# Altium schematic symbol library CPU_STM.SchLib: 336 symbols (part 4 of 6)
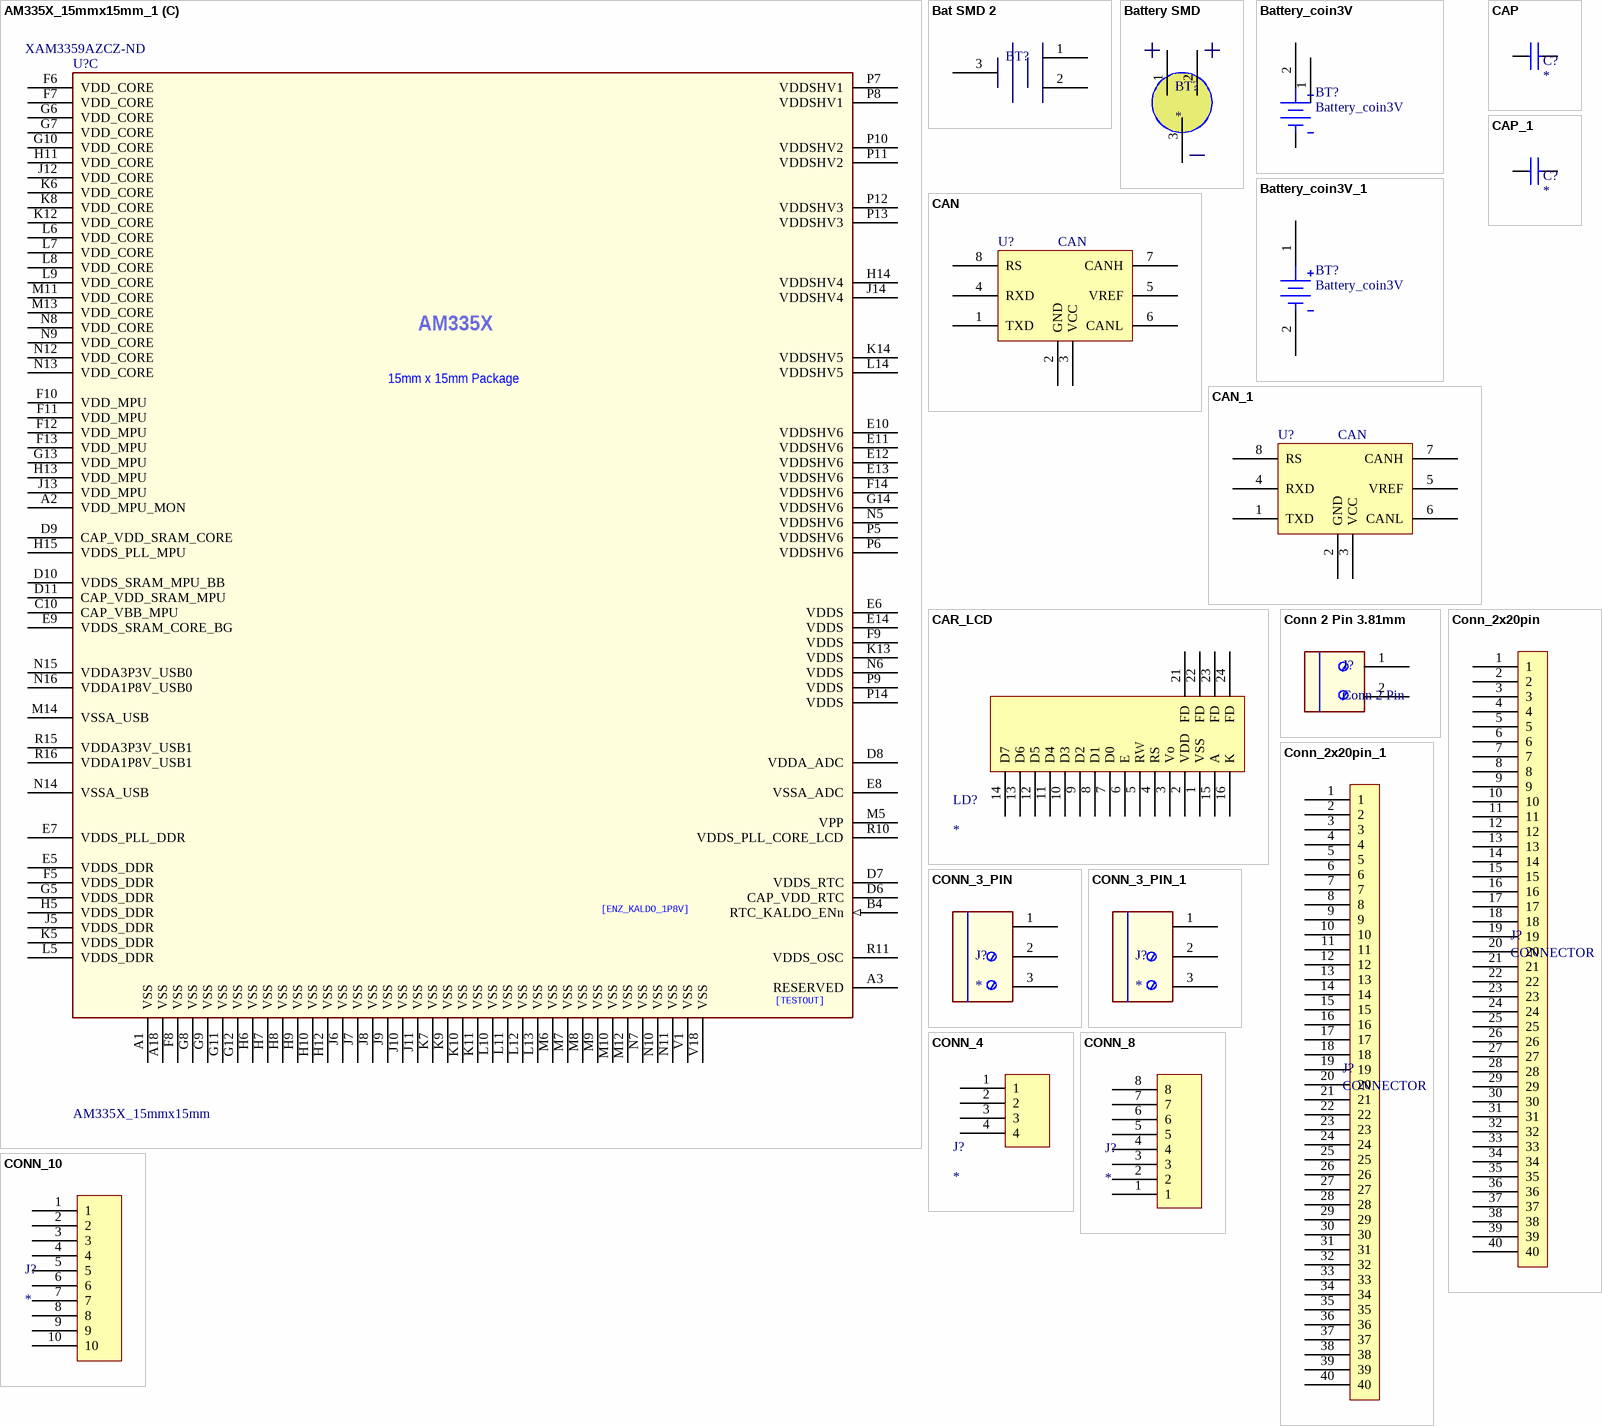
[diagram p22: symbols AM335X_15mmx15mm_1 to CONN_10]

## CAN
designator U?
TEXAS INSTRUMENTS - SN65HVD230DR - IC, CAN TXRX, 1MBPS, 1/1, 3.3V, 8-SOIC; No. of TX Buffers: 1; Supply Voltage Min: 3; Supply Voltage Max: 3.3; Interface Case Style: SOIC; No. of Pins: 8; Supplier 1: Farnell; Manufacturer: TEXAS INSTRUMENTS; Manufacturer Part Number: SN65HVD230DR; RoHS: YES; Stock 1: 634; Pricing 1: 1=1,97, 10=1,77, 25=1,53, 50=1,44, 100=1,42, 250=1,26 (EUR); IC Interface Type: CAN; No. of RX Buffers: 1; Operating Temperature Min: -40; ComponentLink1URL: http://www.farnell.com/datasheets/1695240.pdf; ComponentLink1Description: http://www.farnell.com/datasheets/1695240.pdf; ComponentLink2URL: http://www.farnell.com/cad/1611181.zip; ComponentLink2Description: http://www.farnell.com/cad/1611181.zip; Supplier Part Number 1: 2395479
footprint SOIC-8
pins: 1 TXD, 2 GND, 3 VCC, 4 RXD, 5 VREF, 6 CANL, 7 CANH, 8 RS

## CAN_1
designator U?, comment CAN
TEXAS INSTRUMENTS - SN65HVD230DR - IC, CAN TXRX, 1MBPS, 1/1, 3.3V, 8-SOIC; No. of TX Buffers: 1; Supply Voltage Min: 3; Supply Voltage Max: 3.3; Interface Case Style: SOIC; No. of Pins: 8; Supplier 1: Farnell; Manufacturer: TEXAS INSTRUMENTS; Manufacturer Part Number: SN65HVD230DR; RoHS: YES; Stock 1: 634; Pricing 1: 1=1,97, 10=1,77, 25=1,53, 50=1,44, 100=1,42, 250=1,26 (EUR); IC Interface Type: CAN; No. of RX Buffers: 1; Operating Temperature Min: -40; ComponentLink1URL: http://www.farnell.com/datasheets/1695240.pdf; ComponentLink1Description: http://www.farnell.com/datasheets/1695240.pdf; ComponentLink2URL: http://www.farnell.com/cad/1611181.zip; ComponentLink2Description: http://www.farnell.com/cad/1611181.zip; Supplier Part Number 1: 2395479
footprint SOIC-8
pins: 1 TXD, 2 GND, 3 VCC, 4 RXD, 5 VREF, 6 CANL, 7 CANH, 8 RS

## CAP
designator C?
DEVICE: CAP1608; CLASS: DISCRETE; DIS-V: RS; REF DIS-V: 220-7922; MAN: MURATA; PKG: 0603; PUR: SUB; TOL: 10%; DES: Capacitor X7R,GRM39 serial; PN: GRM39-100nF 16V; RAT: 16V
footprint SM-CAP-0402
pins: 1, 2

## CAP_1
designator C?
DEVICE: CAP1608; CLASS: DISCRETE; DIS-V: RS; REF DIS-V: 220-7922; MAN: MURATA; PKG: 0603; PUR: SUB; TOL: 10%; DES: Capacitor X7R,GRM39 serial; PN: GRM39-100nF 16V; RAT: 16V
footprint SM-CAP-0402
pins: 1, 2

## CAR_LCD
designator LD?
RC1602E Character 16x2 dots
footprint LCD_CAR
footprint mini_lcd
pins: 1 VSS, 2 VDD, 3 Vo, 4 RS, 5 RW, 6 E, 7 D0, 8 D1, 9 D2, 10 D3, 11 D4, 12 D5, 13 D6, 14 D7, 15 A, 16 K, 21 FD, 22 FD, 23 FD, 24 FD

## Conn 2 Pin 3.81mm
designator J?, comment Conn 2 Pin
TERM BLOCK HDR 2POS R/A 3.81MM; Manufacturer: Phoenix Contact; Manufacturer Part Number: 1803277; Number of Positions: 2; Number of Levels: 1; Pitch: 0.150" (3.81mm); Header Orientation: 90°, Right Angle; Current - IEC: 8A; Voltage - IEC: 250V; Voltage - UL: 300V; Supplier 1: Digi-Key; RoHS: RoHS Compliant; Category: Connectors, Interconnects; Stock 1: 4266; Pricing 1: 1=0.75, 10=0.716, 50=0.6844, 100=0.6658, 250=0.6222, 500=0.57242, 1000=0.5185, 2500=0.4941, 5000=0.4636 (USD); Packaging: Bulk; Type: Header, Male Pins, Shrouded (4 Side); Positions Per Level: 2; Plug Wire Entry: -; Termination Style: Solder; Mounting Type: Through Hole; Current - UL: 8A; Wire Gauge or Range - AWG: -; Wire Gauge or Range - mm²: -; Color: Green; Operating Temperature: -; Contact Mating Finish: Tin; Features: -; ComponentLink1URL: http://media.digikey.com/pdf/Data%20Sheets/Phoenix%20Contact%20PDFs/1803277.pdf; ComponentLink1Description: http://media.digikey.com/pdf/Data%20Sheets/Phoenix%20Contact%20PDFs/1803277.pdf; Supplier Part Number 1: 277-1206-ND
footprint Connector 2 Ways Pitch 3,81
pins: 1, 2

## Conn_2x20pin
designator J?, comment CONNECTOR
footprint CONN_2X20 2mm
pins: 1, 2, 3, 4, 5, 6, 7, 8, 9, 10, 11, 12, 13, 14, 15, 16, 17, 18, 19, 20, 21, 22, 23, 24, 25, 26, 27, 28, 29, 30, 31, 32, 33, 34, 35, 36, 37, 38, 39, 40

## Conn_2x20pin_1
designator J?, comment CONNECTOR
footprint CONN_2X20 2mm
pins: 1, 2, 3, 4, 5, 6, 7, 8, 9, 10, 11, 12, 13, 14, 15, 16, 17, 18, 19, 20, 21, 22, 23, 24, 25, 26, 27, 28, 29, 30, 31, 32, 33, 34, 35, 36, 37, 38, 39, 40

## CONN_3_PIN
designator J?
footprint CON_3
pins: 1, 2, 3

## CONN_3_PIN_1
designator J?
footprint CON_3
pins: 1, 2, 3

## CONN_4
designator J?
footprint CONECTOR_PCB_4_180
pins: 1, 2, 3, 4

## CONN_8
designator J?
footprint CONECTOR_PCB_10
pins: 1, 2, 3, 4, 5, 6, 7, 8

## CONN_10
designator J?
footprint Connector_10_pin
pins: 1, 2, 3, 4, 5, 6, 7, 8, 9, 10

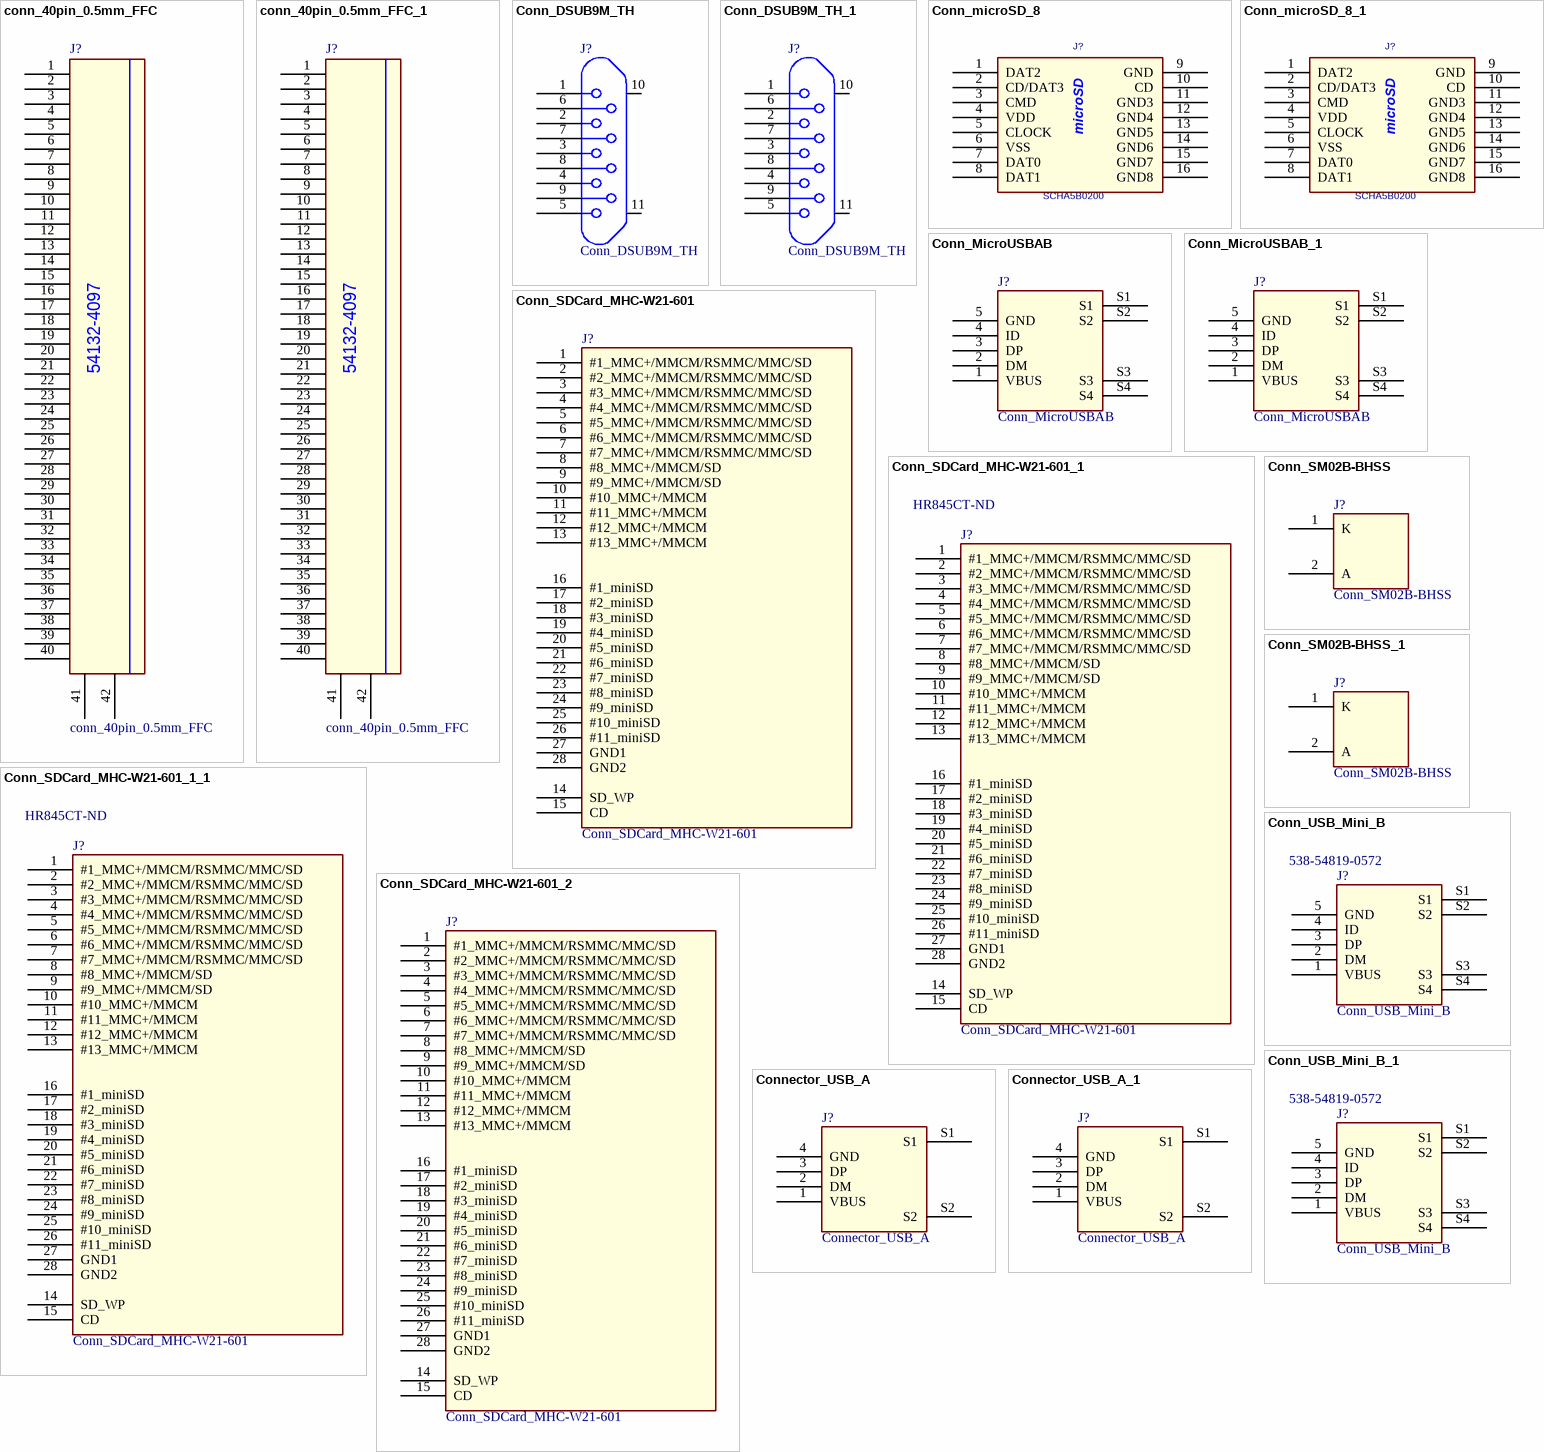
[diagram p10: symbols conn_40pin_0.5mm_FFC to Connector_USB_A_1]

## conn_40pin_0.5mm_FFC
designator J?
PartName: Conn_FFC_0.5mm_40pos; Mfr: Molex; MfrNum: 54132-4097; TIIntPartnumber: 2C0101; Cost100: 1.21; Cost10K: 0.31; DescriptiveText: Connector 0.5mm pitch, 40 Pin, 0.5A/50V, FFC; Vendor: Molex; Supplier 1: Farnell; Supplier Part Number 1: 1757130
footprint CNFPC1X40-0P5MM
pins: 1, 2, 3, 4, 5, 6, 7, 8, 9, 10, 11, 12, 13, 14, 15, 16, 17, 18, 19, 20, 21, 22, 23, 24, 25, 26, 27, 28, 29, 30, 31, 32, 33, 34, 35, 36, 37, 38, 39, 40, 41, 42

## conn_40pin_0.5mm_FFC_1
designator J?, comment conn_40pin_0.5mm_FFC
PartName: Conn_FFC_0.5mm_40pos; Mfr: Molex; MfrNum: 54132-4097; TIIntPartnumber: 2C0101; Cost100: 1.21; Cost10K: 0.31; DescriptiveText: Connector 0.5mm pitch, 40 Pin, 0.5A/50V, FFC; Vendor: Molex; Supplier 1: Farnell; Supplier Part Number 1: 1757130
footprint CNFPC1X40-0P5MM
pins: 1, 2, 3, 4, 5, 6, 7, 8, 9, 10, 11, 12, 13, 14, 15, 16, 17, 18, 19, 20, 21, 22, 23, 24, 25, 26, 27, 28, 29, 30, 31, 32, 33, 34, 35, 36, 37, 38, 39, 40, 41, 42

## Conn_DSUB9M_TH
designator J?
TIIntPartnumber: 2C0098; MfrNum: 182-009-113R531; Mfr: Norcomp; PartName: Conn_DSub9MTH; Cost10K: 0.82; Cost100: 1.20; Vendor: Digikey; DescriptiveText: Connector DB9 Male RA Throughhole; Supplier 1: Digi-Key; Supplier Part Number 1: 182-09ME-ND
footprint norcomp_db9m_th
pins: 1, 2, 3, 4, 5, 6, 7, 8, 9, 10, 11

## Conn_DSUB9M_TH_1
designator J?, comment Conn_DSUB9M_TH
TIIntPartnumber: 2C0098; MfrNum: 182-009-113R531; Mfr: Norcomp; PartName: Conn_DSub9MTH; Cost10K: 0.82; Cost100: 1.20; Vendor: Digikey; DescriptiveText: Connector DB9 Male RA Throughhole; Supplier 1: Digi-Key; Supplier Part Number 1: 182-09ME-ND
footprint norcomp_db9m_th
pins: 1, 2, 3, 4, 5, 6, 7, 8, 9, 10, 11

## Conn_microSD_8
designator J?, comment SCHA5B0200
TIIntPartnumber: 2C0102; Mfr: ALPS; PartName: Conn_microSD_SCHA5B0200; DescriptiveText: Connector compact low-profile Push Type Micro SD; Cost10K: x.00; Vendor: Mouser; Cost100: x.00; MfrNum: SCHA5B0200; Supplier 1: Mouser; Supplier Part Number 1: 688-SCHA5B0200
footprint SD-MICRO-SCHA5B0300
pins: 1 DAT2, 2 CD/DAT3, 3 CMD, 4 VDD (power), 5 CLOCK, 6 VSS (power), 7 DAT0, 8 DAT1, 9 GND (power), 10 CD, 11 GND3 (power), 12 GND4 (power), 13 GND5 (power), 14 GND6 (power), 15 GND7 (power), 16 GND8 (power)
text: microSD

## Conn_microSD_8_1
designator J?, comment SCHA5B0200
TIIntPartnumber: 2C0102; Mfr: ALPS; PartName: Conn_microSD_SCHA5B0200; DescriptiveText: Connector compact low-profile Push Type Micro SD; Cost10K: x.00; Vendor: Mouser; Cost100: x.00; MfrNum: SCHA5B0200; Supplier 1: Mouser; Supplier Part Number 1: 688-SCHA5B0200
footprint SD-MICRO-SCHA5B0300
pins: 1 DAT2, 2 CD/DAT3, 3 CMD, 4 VDD (power), 5 CLOCK, 6 VSS (power), 7 DAT0, 8 DAT1, 9 GND (power), 10 CD, 11 GND3 (power), 12 GND4 (power), 13 GND5 (power), 14 GND6 (power), 15 GND7 (power), 16 GND8 (power)
text: microSD

## Conn_MicroUSBAB
designator J?
Connector Micro USB AB RA; TIIntPartnumber: 2C0088; MfrNum: ZX62-AB-5PA(11); Mfr: Hirose; Cost10K: 0.26; Cost100: 0.67; Vendor: Digikey; DescriptiveText: Connector Micro USB AB RA; PartName: ConnectorMicroUSBAB; Descriptive_Text: Connector Micro USB AB RA; Supplier 1: Digi-Key; Supplier Part Number 1: H11635CT-ND
footprint ZX62-AB-5PA
pins: 1 VBUS, 2 DM, 3 DP, 4 ID, 5 GND, S1 (power), S2 (power), S3 (power), S4 (power)

## Conn_MicroUSBAB_1
designator J?, comment Conn_MicroUSBAB
Connector Micro USB AB RA; TIIntPartnumber: 2C0088; MfrNum: ZX62-AB-5PA(11); Mfr: Hirose; Cost10K: 0.26; Cost100: 0.67; Vendor: Digikey; DescriptiveText: Connector Micro USB AB RA; PartName: ConnectorMicroUSBAB; Descriptive_Text: Connector Micro USB AB RA; Supplier 1: Digi-Key; Supplier Part Number 1: H11635CT-ND
footprint ZX62-AB-5PA
pins: 1 VBUS, 2 DM, 3 DP, 4 ID, 5 GND, S1 (power), S2 (power), S3 (power), S4 (power)

## Conn_SDCard_MHC-W21-601
designator J?
Connector SD/MMC; PartName: ConnectorSDMMC; Mfr: Morethanall; MfrNum: MHC-W21-601-LF; TIIntPartnumber: 2C0089; Cost100: 0.95; Cost10K: 0.29; DescriptiveText: Connector SD/MMC; Vendor: Morethanall; Descriptive_Text: Connector SD/MMC
footprint MHC-W21-601-LF
pins: 1 #1_MMC+/MMCM/RSMMC/MMC/SD, 2 #2_MMC+/MMCM/RSMMC/MMC/SD, 3 #3_MMC+/MMCM/RSMMC/MMC/SD, 4 #4_MMC+/MMCM/RSMMC/MMC/SD, 5 #5_MMC+/MMCM/RSMMC/MMC/SD, 6 #6_MMC+/MMCM/RSMMC/MMC/SD, 7 #7_MMC+/MMCM/RSMMC/MMC/SD, 8 #8_MMC+/MMCM/SD, 9 #9_MMC+/MMCM/SD, 10 #10_MMC+/MMCM, 11 #11_MMC+/MMCM, 12 #12_MMC+/MMCM, 13 #13_MMC+/MMCM, 14 SD_WP, 15 CD, 16 #1_miniSD, 17 #2_miniSD, 18 #3_miniSD, 19 #4_miniSD, 20 #5_miniSD, 21 #6_miniSD, 22 #7_miniSD, 23 #8_miniSD, 24 #9_miniSD, 25 #10_miniSD, 26 #11_miniSD, 27 GND1, 28 GND2

## Conn_SDCard_MHC-W21-601_1
designator J?, comment Conn_SDCard_MHC-W21-601  Supplier Part Number 1: HR845CT-ND
Connector SD/MMC; PartName: ConnectorSDMMC; Mfr: Morethanall; MfrNum: MHC-W21-601-LF; TIIntPartnumber: 2C0089; Cost100: 0.95; Cost10K: 0.29; DescriptiveText: Connector SD/MMC; Vendor: Morethanall; Descriptive_Text: Connector SD/MMC; Supplier 1: Digi-Key
footprint MHC-W21-601-LF
pins: 1 #1_MMC+/MMCM/RSMMC/MMC/SD, 2 #2_MMC+/MMCM/RSMMC/MMC/SD, 3 #3_MMC+/MMCM/RSMMC/MMC/SD, 4 #4_MMC+/MMCM/RSMMC/MMC/SD, 5 #5_MMC+/MMCM/RSMMC/MMC/SD, 6 #6_MMC+/MMCM/RSMMC/MMC/SD, 7 #7_MMC+/MMCM/RSMMC/MMC/SD, 8 #8_MMC+/MMCM/SD, 9 #9_MMC+/MMCM/SD, 10 #10_MMC+/MMCM, 11 #11_MMC+/MMCM, 12 #12_MMC+/MMCM, 13 #13_MMC+/MMCM, 14 SD_WP, 15 CD, 16 #1_miniSD, 17 #2_miniSD, 18 #3_miniSD, 19 #4_miniSD, 20 #5_miniSD, 21 #6_miniSD, 22 #7_miniSD, 23 #8_miniSD, 24 #9_miniSD, 25 #10_miniSD, 26 #11_miniSD, 27 GND1, 28 GND2

## Conn_SDCard_MHC-W21-601_1_1
designator J?, comment Conn_SDCard_MHC-W21-601  Supplier Part Number 1: HR845CT-ND
Connector SD/MMC; PartName: ConnectorSDMMC; Mfr: Morethanall; MfrNum: MHC-W21-601-LF; TIIntPartnumber: 2C0089; Cost100: 0.95; Cost10K: 0.29; DescriptiveText: Connector SD/MMC; Vendor: Morethanall; Descriptive_Text: Connector SD/MMC; Supplier 1: Digi-Key
footprint MHC-W21-601-LF
pins: 1 #1_MMC+/MMCM/RSMMC/MMC/SD, 2 #2_MMC+/MMCM/RSMMC/MMC/SD, 3 #3_MMC+/MMCM/RSMMC/MMC/SD, 4 #4_MMC+/MMCM/RSMMC/MMC/SD, 5 #5_MMC+/MMCM/RSMMC/MMC/SD, 6 #6_MMC+/MMCM/RSMMC/MMC/SD, 7 #7_MMC+/MMCM/RSMMC/MMC/SD, 8 #8_MMC+/MMCM/SD, 9 #9_MMC+/MMCM/SD, 10 #10_MMC+/MMCM, 11 #11_MMC+/MMCM, 12 #12_MMC+/MMCM, 13 #13_MMC+/MMCM, 14 SD_WP, 15 CD, 16 #1_miniSD, 17 #2_miniSD, 18 #3_miniSD, 19 #4_miniSD, 20 #5_miniSD, 21 #6_miniSD, 22 #7_miniSD, 23 #8_miniSD, 24 #9_miniSD, 25 #10_miniSD, 26 #11_miniSD, 27 GND1, 28 GND2

## Conn_SDCard_MHC-W21-601_2
designator J?, comment Conn_SDCard_MHC-W21-601
Connector SD/MMC; PartName: ConnectorSDMMC; Mfr: Morethanall; MfrNum: MHC-W21-601-LF; TIIntPartnumber: 2C0089; Cost100: 0.95; Cost10K: 0.29; DescriptiveText: Connector SD/MMC; Vendor: Morethanall; Descriptive_Text: Connector SD/MMC
footprint MHC-W21-601-LF
pins: 1 #1_MMC+/MMCM/RSMMC/MMC/SD, 2 #2_MMC+/MMCM/RSMMC/MMC/SD, 3 #3_MMC+/MMCM/RSMMC/MMC/SD, 4 #4_MMC+/MMCM/RSMMC/MMC/SD, 5 #5_MMC+/MMCM/RSMMC/MMC/SD, 6 #6_MMC+/MMCM/RSMMC/MMC/SD, 7 #7_MMC+/MMCM/RSMMC/MMC/SD, 8 #8_MMC+/MMCM/SD, 9 #9_MMC+/MMCM/SD, 10 #10_MMC+/MMCM, 11 #11_MMC+/MMCM, 12 #12_MMC+/MMCM, 13 #13_MMC+/MMCM, 14 SD_WP, 15 CD, 16 #1_miniSD, 17 #2_miniSD, 18 #3_miniSD, 19 #4_miniSD, 20 #5_miniSD, 21 #6_miniSD, 22 #7_miniSD, 23 #8_miniSD, 24 #9_miniSD, 25 #10_miniSD, 26 #11_miniSD, 27 GND1, 28 GND2

## Conn_SM02B-BHSS
designator J?
Connector BHS Series 2pin PCB; TIIntPartnumber: 2C0093; MfrNum: SM02B-BHSS-1-TB; Mfr: JST; Cost10K: 0.82; Cost100: 1.74; Vendor: Digikey; Descriptive_Text: Connector BHS Series 2pin PCB; PartName: Conn_SM02B-BHSS; DescriptiveText: Connector BHS Series 2pin PCB; Supplier 1: Digi-Key; Supplier Part Number 1: 455-2876-6-ND
footprint sm_con_sm02b_bhss-1
pins: 1 K, 2 A

## Conn_SM02B-BHSS_1
designator J?, comment Conn_SM02B-BHSS
Connector BHS Series 2pin PCB; TIIntPartnumber: 2C0093; MfrNum: SM02B-BHSS-1-TB; Mfr: JST; Cost10K: 0.82; Cost100: 1.74; Vendor: Digikey; Descriptive_Text: Connector BHS Series 2pin PCB; PartName: Conn_SM02B-BHSS; DescriptiveText: Connector BHS Series 2pin PCB; Supplier 1: Digi-Key; Supplier Part Number 1: 455-2876-6-ND
footprint sm_con_sm02b_bhss-1
pins: 1 K, 2 A

## Conn_USB_Mini_B
designator J?  Supplier Part Number 1: 538-54819-0572
TIIntPartnumber: 2C0088; MfrNum: ZX62-AB-5PA(11); Mfr: Hirose; PartName: ConnectorMicroUSBAB; Manufacturer: Molex; Manufacturer Part Number: 54819-0572; DescriptiveText: Connector Micro USB AB RA; Cost10K: 0.26; Cost100: 0.67; Vendor: Digikey; Connector Type: Mini USB Type B Receptacle; Current Rating: 1 A; Gender: Female; Mounting Angle: Right; Number of Contacts: 5; Voltage Rating: 30 V; Insulator Colour: Black; Number of Ports: 1; Insulation Resistance: 100 MOhms; Descriptive_Text: Connector Micro USB AB RA; Supplier 1: Mouser; RoHS: RoHS Compliant; Category: USB Connectors; Stock 1: 15341; Pricing 1: 1=1.46, 10=1.35, 25=1.24, 50=1.19, 100=1.11, 250=0.999, 500=0.847, 800=0.723, 1600=0.704 (USD); Color: Black; Contact Plating: Gold; Features: Metal shielding for ESD protection; Operating Temperature Range: 0 C to + 50 C; Packaging: Reel; Product: Mini USB Type B Connectors; Series: 54819; Termination Style: Solder Tab; Brand: Molex; Contact Material: Copper Alloy; Flammability Rating: UL 94 V-0; Product Category: USB Connectors; Standard: USB; Standard Pack Qty: 800; RoHS - Mouser: Y; Minimum Order Quantity: 1; Reeling: True; ComponentLink1URL: http://www.mouser.com/ds/2/276/0548190572_IO_CONNECTORS-228789.pdf; ComponentLink1Description: http://www.mouser.com/ds/2/276/0548190572_IO_CONNECTORS-228789.pdf
footprint USB MINI TYPE B
pins: 1 VBUS, 2 DM, 3 DP, 4 ID, 5 GND, S1 (power), S2 (power), S3 (power), S4 (power)

## Conn_USB_Mini_B_1
designator J?, comment Conn_USB_Mini_B  Supplier Part Number 1: 538-54819-0572
TIIntPartnumber: 2C0088; MfrNum: ZX62-AB-5PA(11); Mfr: Hirose; PartName: ConnectorMicroUSBAB; Manufacturer: Molex; Manufacturer Part Number: 54819-0572; DescriptiveText: Connector Micro USB AB RA; Cost10K: 0.26; Cost100: 0.67; Vendor: Digikey; Connector Type: Mini USB Type B Receptacle; Current Rating: 1 A; Gender: Female; Mounting Angle: Right; Number of Contacts: 5; Voltage Rating: 30 V; Insulator Colour: Black; Number of Ports: 1; Insulation Resistance: 100 MOhms; Descriptive_Text: Connector Micro USB AB RA; Supplier 1: Mouser; RoHS: RoHS Compliant; Category: USB Connectors; Stock 1: 15341; Pricing 1: 1=1.46, 10=1.35, 25=1.24, 50=1.19, 100=1.11, 250=0.999, 500=0.847, 800=0.723, 1600=0.704 (USD); Color: Black; Contact Plating: Gold; Features: Metal shielding for ESD protection; Operating Temperature Range: 0 C to + 50 C; Packaging: Reel; Product: Mini USB Type B Connectors; Series: 54819; Termination Style: Solder Tab; Brand: Molex; Contact Material: Copper Alloy; Flammability Rating: UL 94 V-0; Product Category: USB Connectors; Standard: USB; Standard Pack Qty: 800; RoHS - Mouser: Y; Minimum Order Quantity: 1; Reeling: True; ComponentLink1URL: http://www.mouser.com/ds/2/276/0548190572_IO_CONNECTORS-228789.pdf; ComponentLink1Description: http://www.mouser.com/ds/2/276/0548190572_IO_CONNECTORS-228789.pdf
footprint USB MINI TYPE B
pins: 1 VBUS, 2 DM, 3 DP, 4 ID, 5 GND, S1 (power), S2 (power), S3 (power), S4 (power)

## Connector_USB_A
designator J?
Mfr: FCI; MfrNum: 87520-0010BLF; TIIntPartnumber: 2C0017; Vendor: Digikey; Cost100: 0.477; Cost10K: 0.4000; DescriptiveText: CONN USB RECEPT TYPE A PCB; PartName: Connector_USB_A; Supplier 1: Digi-Key; Supplier Part Number 1: 609-1045-ND
footprint usb_std_a_th (USB_STD_A_TH)
pins: 1 VBUS, 2 DM, 3 DP, 4 GND, S1 (power), S2 (power)

## Connector_USB_A_1
designator J?, comment Connector_USB_A
Mfr: FCI; MfrNum: 87520-0010BLF; TIIntPartnumber: 2C0017; Vendor: Digikey; Cost100: 0.477; Cost10K: 0.4000; DescriptiveText: CONN USB RECEPT TYPE A PCB; PartName: Connector_USB_A; Supplier 1: Digi-Key; Supplier Part Number 1: 609-1045-ND
footprint usb_std_a_th (USB_STD_A_TH)
pins: 1 VBUS, 2 DM, 3 DP, 4 GND, S1 (power), S2 (power)

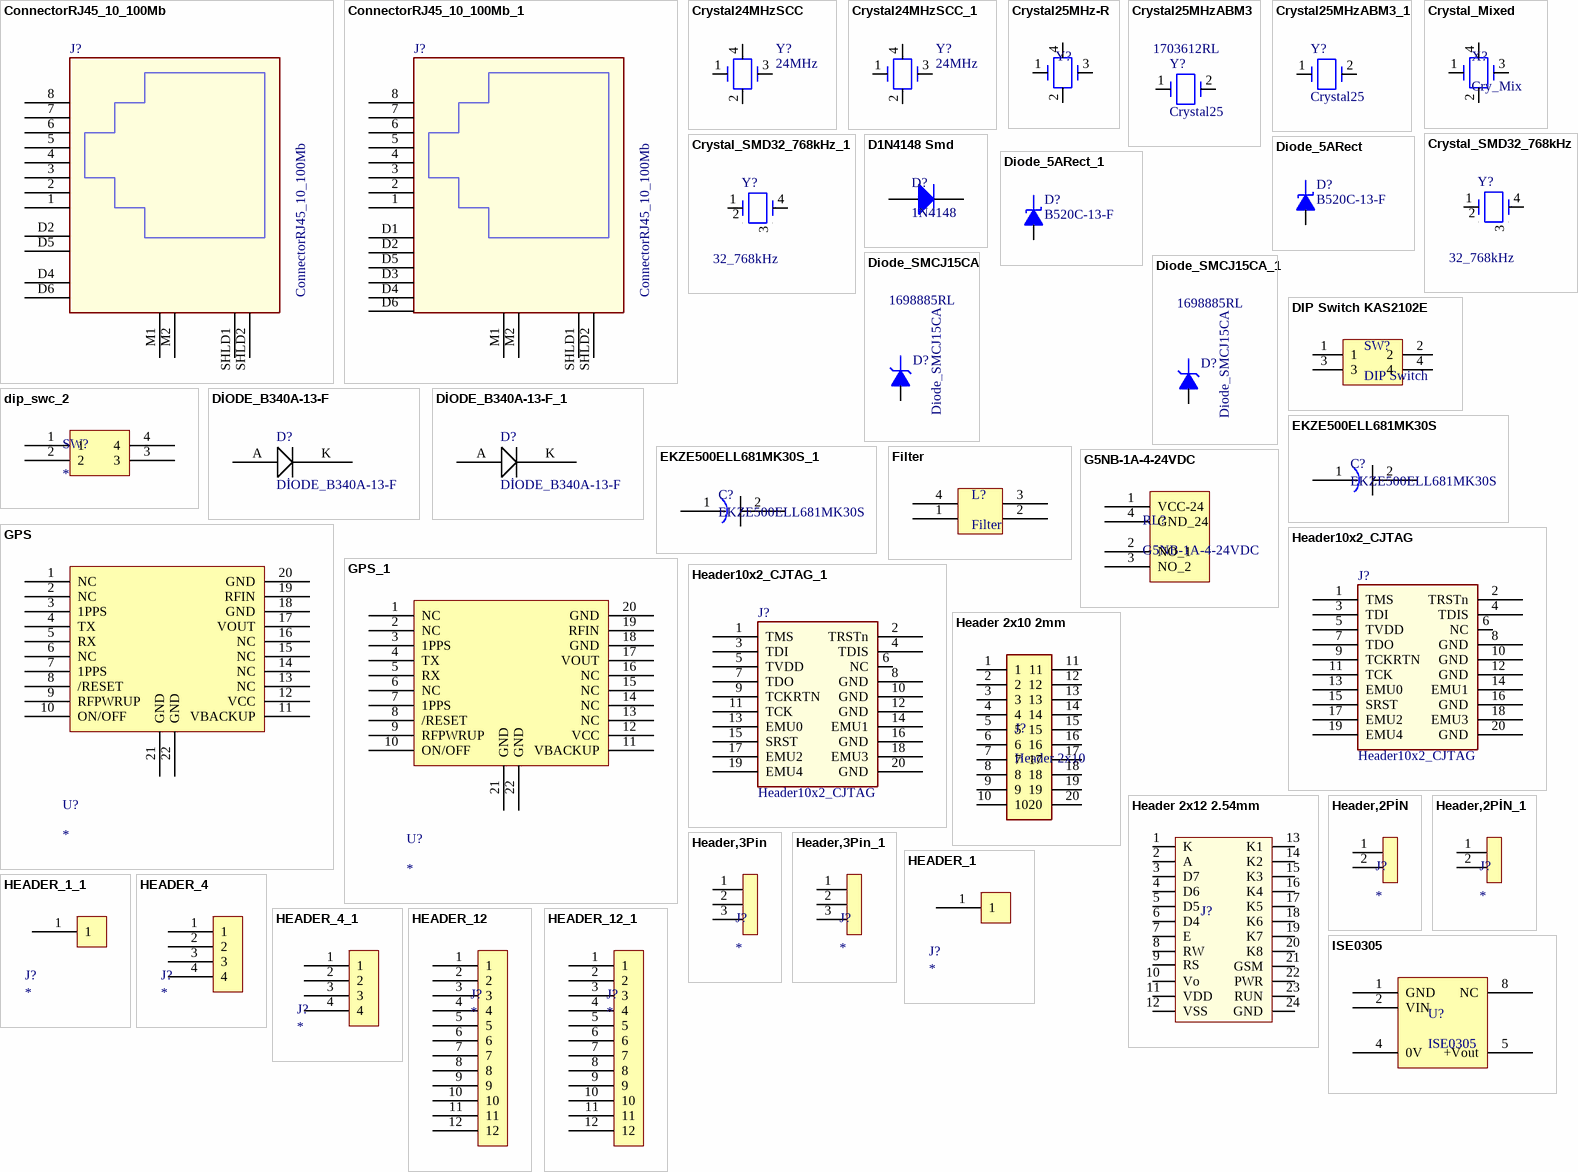
[diagram p11: symbols ConnectorRJ45_10_100Mb to ISE0305]

## ConnectorRJ45_10_100Mb
designator J?
Connector MagRJ-45 Jack w/LED 10_100Mb; Mfr: Tyco; MfrNum: 5-6605728-1; TIIntPartnumber: 2J0020; Vendor: Digikey; Cost100: 8.45; Cost10K: 3.22; Descriptive_Text: Connector MagRJ-45 Jack w/LED 10_100Mb; PartName: ConnectorRJ45_10_100Mb; DescriptiveText: Connector MagRJ-45 Jack w/LED 10_100Mb; Supplier 1: Digi-Key; Supplier Part Number 1: 1419-1020-ND
footprint 6605728-1
pins: 1, 2, 3, 4, 5, 6, 7, 8, D2, D4, D5, D6, M1, M2, SHLD1, SHLD2

## ConnectorRJ45_10_100Mb_1
designator J?, comment ConnectorRJ45_10_100Mb
Connector MagRJ-45 Jack w/LED 10_100Mb; Mfr: Tyco; MfrNum: 5-6605728-1; TIIntPartnumber: 2J0020; Vendor: Digikey; Cost100: 8.45; Cost10K: 3.22; Descriptive_Text: Connector MagRJ-45 Jack w/LED 10_100Mb; PartName: ConnectorRJ45_10_100Mb; DescriptiveText: Connector MagRJ-45 Jack w/LED 10_100Mb; Supplier 1: Digi-Key; Supplier Part Number 1: 1419-1020-ND
footprint 6605728-1
pins: 1, 2, 3, 4, 5, 6, 7, 8, D1, D2, D3, D4, D5, D6, M1, M2, SHLD1, SHLD2

## Crystal24MHzSCC
designator Y?, comment 24MHz
Crystal 24MHz; PartName: Crystal24MHzSCC; Mfr: Suntsu; MfrNum: SCC18B-24.000MHz TR; TIIntPartnumber: 1Y0033; Vendor: Suntsu Inc; Cost100: 0.90; Cost10K: 0.51; DescriptiveText: Crystal 24MHz; Descriptive_Text: Crystal 24MHz; Supplier 1: Digi-Key; Supplier Part Number 1: 887-1110-1-ND
footprint SM_CRY_SCC18
pins: 1, 2 NC0, 3, 4 NC1

## Crystal24MHzSCC_1
designator Y?, comment 24MHz
Crystal 24MHz; PartName: Crystal24MHzSCC; Mfr: Suntsu; MfrNum: SCC18B-24.000MHz TR; TIIntPartnumber: 1Y0033; Vendor: Suntsu Inc; Cost100: 0.90; Cost10K: 0.51; DescriptiveText: Crystal 24MHz; Descriptive_Text: Crystal 24MHz; Supplier 1: Digi-Key; Supplier Part Number 1: 887-1110-1-ND
footprint SM_CRY_SCC18
pins: 1, 2 NC0, 3, 4 NC1

## Crystal25MHz-R
designator Y?, comment 25MHz  (value not drawn)
RALTRON - RH100-25.000-18-F-3030-EXT - CRYSTAL, 25MHZ, 18PF, 3.2MM X 2.5MM; Product Range: RH100 Series; Frequency Nom: 25; Frequency Stability + / -: 30; Crystal Case: SMD, 3.2mm x 2.5; Load Capacitance: 18; SVHC: No SVHC (17-Dec-2015); Supplier 1: Farnell; Manufacturer: RALTRON; Manufacturer Part Number: RH100-25.000-18-F-3030-EXT; RoHS: YES; Pricing 1: 1=0.81, 5=0.75, 10=0.68, 20=0.61, 40=0.58, 100=0.54, 500=0.529, 1000=0.518 (GBP); Frequency Tolerance + / -: 30; Operating Temperature Min: -40; Operating Temperature Max: 85; MSL: MSL 1 - Unlimited<!--FANDB--><div class="features-and-benefits-container"></div>; ComponentLink1URL: http://www.farnell.com/datasheets/1998832.pdf; ComponentLink1Description: http://www.farnell.com/datasheets/1998832.pdf; Supplier Part Number 1: 2509084RL
footprint ABM8G (XTAL)
pins: 1, 2, 3, 4

## Crystal25MHzABM3
designator Y?, comment Crystal25  Supplier Part Number 1: 1703612RL
Crystal 25MHz; TIIntPartnumber: 1Y0030; MfrNum: ABM3-25.000MHz-B2-T; Mfr: Abracon; PartName: Crystal25MHzABM3; Cost10K: 0.51; Cost100: 0.90; Vendor: Digikey; TN: tbd; Descriptive_Text: Crystal 25MHz; DescriptiveText: Crystal 25MHz; Supplier 1: Farnell
footprint CON_3
pins: 1, 2

## Crystal25MHzABM3_1
designator Y?, comment Crystal25
ABM3-25.000MHz-B2-T; TIIntPartnumber: 1Y0030; Mfr: Abracon; PartName: Crystal25MHzABM3; Descriptive_Text: Crystal 25MHz; Cost10K: 0.51; Cost100: 0.90; Vendor: Digikey; TN: tbd; MfrNum: ABM3-25.000MHz-B2-T; DescriptiveText: Crystal 25MHz; Supplier 1: Farnell; Supplier Part Number 1: 1703612RL
footprint CON_3
pins: 1, 2

## Crystal_Mixed
designator X?, comment Cry_Mix
footprint sm_osc_mixed
pins: 1, 2, 3, 4

## Crystal_SMD32_768kHz
designator Y?, comment 32_768kHz
Crystal 32.768KHz; TIIntPartnumber: 1Y0029; MfrNum: MC-30632.7680k-A; Mfr: Epson; PartName: Crystal32.768KHzMC306; Cost10K: 0.338; Cost100: 0.41; Vendor: Digikey; TN: tbd; Descriptive_Text: Crystal 32.768KHz; DescriptiveText: Crystal 32.768KHz; Supplier 1: Digi-Key; Supplier Part Number 1: SER2407TR-ND
footprint CRSTAL_RTC (MC-306)
pins: 1, 2, 3, 4

## Crystal_SMD32_768kHz_1
designator Y?, comment 32_768kHz
Crystal 32.768KHz; TIIntPartnumber: 1Y0029; MfrNum: MC-30632.7680k-A; Mfr: Epson; PartName: Crystal32.768KHzMC306; Cost10K: 0.338; Cost100: 0.41; Vendor: Digikey; TN: tbd; Descriptive_Text: Crystal 32.768KHz; DescriptiveText: Crystal 32.768KHz; Supplier 1: Digi-Key; Supplier Part Number 1: SER2407TR-ND
footprint CRSTAL_RTC (MC-306)
pins: 1, 2, 3, 4

## D1N4148 Smd
designator D?, comment 1N4148
DIODES INC. - 1N4148WS-7-F - DIODE, SS SWITCH, 75V, 0.2W, SOD323; Manufacturer: Vishay Semiconductor Diodes Division; Manufacturer Part Number: LL4148-GS18; Diode Type: Standard; Current - Average Rectified (Io): 300mA (DC); Voltage - Forward (Vf) (Max) @ If: 1V @ 50mA; Speed: Fast Recovery =< 500ns, > 200mA (Io); Reverse Recovery Time (trr): 4ns; Current - Reverse Leakage @ Vr: 5µA @ 75V; Capacitance @ Vr, F: 4pF @ 0V, 1MHz; Diode Configuration: Single; Repetitive Reverse Voltage Vrrm Max: 75; Forward Current If(AV): 150; Forward Voltage VF Max: 1.25; Reverse Recovery Time trr Max: 4; Forward Surge Current Ifsm Max: 2; Diode Case Style: SOD-323; Product Range: 1N4148 Series; SVHC: No SVHC (17-Dec-2015); Supplier 1: Digi-Key; RoHS: RoHS Compliant; Category: Discrete Semiconductor Products; Stock 1: 30000; Pricing 1: 10000=0.019, 30000=0.0171, 50000=0.0152, 100000=0.01425, 250000=0.01264 (USD); Packaging: Tape & Reel (TR); Voltage - DC Reverse (Vr) (Max): 75V; Mounting Type: Surface Mount; Package / Case: DO-213AC, MINI-MELF, SOD-80; Supplier Device Package: SOD-80 MiniMELF; Operating Temperature - Junction: -65°C ~ 175°C; ComponentLink1URL: http://www.vishay.com/docs/85557/ll4148.pdf; ComponentLink1Description: http://www.vishay.com/docs/85557/ll4148.pdf; Operating Temperature Max: 150; No. of Pins: 2; MSL: MSL 1 - Unlimited; Operating Temperature Min: -65; Operating Temperature Range: -65°C to +150°C<!--FANDB--><div class="features-and-benefits-container"><div class="features-and-benefits-description"><span class="features-benefits-value">The 1N4148WS-7-F is a surface mount fast Switching Diode with matte tin-plated terminals and an UL94V-0 green molding compound molded plastic case. Solderable terminals as per MIL-STD-202, method 208 standard. Color band denotes cathode end polarity. It is suitable for general purpose switching applications.</span></div><div class="features-and-benefits-list"><ul class="features-and-benefits-list-list"><li class="features-and-benefits-list-item">Fast switching speed</li><li class="features-and-benefits-list-item">100V Non-repetitive peak reverse voltage</li><li class="features-and-benefits-list-item">53V RMS reverse voltage</li><li class="features-and-benefits-list-item">200mW Power dissipation</li><li class="features-and-benefits-list-item">625; ComponentLink2URL: http://www.farnell.com/datasheets/1911818.pdf; ComponentLink2Description: http://www.farnell.com/datasheets/1911818.pdf; Supplier Part Number 1: LL4148-GS18TR-ND
footprint D1N4148 MiniMelf
pins: 1 K, 2 A

## Diode_5ARect
designator D?, comment B520C-13-F
Diode Power Rectifier 5A Schottky; PartName: Diode_5ARect; Mfr: Diodes Inc; TIIntPartnumber: 1E0012; Vendor: Digikey; Cost100: 0.17; Cost10K: 0.09; DescriptiveText: Diode Power Rectifier 5A Schottky; MfrNum: B520C-13-F; Descriptive_Text: Diode Power Rectifier 5A Schottky; Supplier 1: Digi-Key; Supplier Part Number 1: B520C-FDITR-ND
footprint B520C-13-F
pins: 1 CATHODE, 2 ANODE

## Diode_5ARect_1
designator D?, comment B520C-13-F
Diode Power Rectifier 5A Schottky; PartName: Diode_5ARect; Mfr: Diodes Inc; TIIntPartnumber: 1E0012; Vendor: Digikey; Cost100: 0.17; Cost10K: 0.09; DescriptiveText: Diode Power Rectifier 5A Schottky; MfrNum: B520C-13-F; Descriptive_Text: Diode Power Rectifier 5A Schottky; Supplier 1: Digi-Key; Supplier Part Number 1: B520C-FDITR-ND
footprint B520C-13-F
pins: 1 CATHODE, 2 ANODE

## Diode_SMCJ15CA
designator D?  Supplier Part Number 1: 1698885RL
Voltage Surpressor 15.0V; Mfr: LittleFuse; TIIntPartnumber: 1E0011; Vendor: Digikey; Cost100: 0.41; Cost10K: 0.26; DescriptiveText: Voltage Surpressor 15.0V; PartName: SMCJ15CA; MfrNum: SMCJ15CA; Descriptive_Text: Voltage Surpressor 15.0V; Supplier 1: Farnell
footprint SMCJ15CA
pins: 1 CATHODE, 2 ANODE

## Diode_SMCJ15CA_1
designator D?, comment Diode_SMCJ15CA  Supplier Part Number 1: 1698885RL
Voltage Surpressor 15.0V; Mfr: LittleFuse; TIIntPartnumber: 1E0011; Vendor: Digikey; Cost100: 0.41; Cost10K: 0.26; DescriptiveText: Voltage Surpressor 15.0V; PartName: SMCJ15CA; MfrNum: SMCJ15CA; Descriptive_Text: Voltage Surpressor 15.0V; Supplier 1: Farnell
footprint SMCJ15CA
pins: 1 CATHODE, 2 ANODE

## DIP Switch KAS2102E
designator SW?, comment DIP Switch
SWITCH SLIDE DIP SPST 25MA 24V; Manufacturer: E-Switch; Manufacturer Part Number: KAS2102ET; Number of Positions: 2; Voltage Rating: 24VDC; Actuator Type: Slide (Standard); Actuator Level: Raised; Pitch: 0.100" (2.54mm), Full; Washable: Yes; Body Material: Polybutylene Terephthalate (PBT), Glass Filled; Mechanical Life: 2,000 Cycles; Supplier 1: Digi-Key; RoHS: RoHS Compliant; Category: Switches; Stock 1: 10973; Pricing 1: 1=1.47, 10=1.387, 50=1.2452, 100=1.2169, 250=1.0754, 500=1.0188, 1000=0.9056, 5000=0.7924 (USD); Packaging: Tube; Circuit: SPST; Current Rating: 25mA; Contact Material: Phosphor Bronze; Contact Finish: Gold; Height Above Board: 0.389" (9.90mm); Mounting Type: Through Hole, Right Angle; Termination Style: PC Pin; Features: Tape Seal; Length: 0.254" (6.44mm); Operating Temperature: -40°C ~ 85°C; Electrical Life: 2,000 Cycles; ComponentLink1URL: http://spec_sheets.e-switch.com/specs/N321021.pdf; ComponentLink1Description: http://spec_sheets.e-switch.com/specs/N321021.pdf; Supplier Part Number 1: EG4507-ND
footprint DIP Switch (SWITCH SLIDE DIP SPST 25MA 24V)
pins: 1, 2, 3, 4

## dip_swc_2
designator SW?
footprint dip_swc_2 (219-8MST)
pins: 1, 2, 3, 4

## DİODE_B340A-13-F
designator D?
MULTICOMP - B340A-13-F - DIODE, RECTIFIER, 3A, 40V, DO-214AC; Supplier 1: Farnell; Manufacturer: MULTICOMP; Manufacturer Part Number: B340A-13-F; RoHS: YES; Stock 1: 9862; Pricing 1: 1=0,28, 10=0,166, 50=0,125, 100=0,117, 500=0,109, 1000=0,101 (EUR); ComponentLink1URL: http://www.farnell.com/datasheets/1693726.pdf; ComponentLink1Description: http://www.farnell.com/datasheets/1693726.pdf; Supplier Part Number 1: 2306401
footprint Diode
pins: A, K

## DİODE_B340A-13-F_1
designator D?, comment DİODE_B340A-13-F
MULTICOMP - B340A-13-F - DIODE, RECTIFIER, 3A, 40V, DO-214AC; Supplier 1: Farnell; Manufacturer: MULTICOMP; Manufacturer Part Number: B340A-13-F; RoHS: YES; Stock 1: 9862; Pricing 1: 1=0,28, 10=0,166, 50=0,125, 100=0,117, 500=0,109, 1000=0,101 (EUR); ComponentLink1URL: http://www.farnell.com/datasheets/1693726.pdf; ComponentLink1Description: http://www.farnell.com/datasheets/1693726.pdf; Supplier Part Number 1: 2306401
footprint Diode
pins: A, K

## EKZE500ELL681MK30S
designator C?
Aluminium Electrolytic Capacitors - Leaded 50volts 680uF 12.5X30; Manufacturer: United Chemi-Con; Tolerance: 20 %; Voltage Rating DC: 50 V; Case Diameter: 12.5 mm; Case Length: 30 mm; Supplier 1: Mouser; Manufacturer Part Number: EKZE500ELL681MK30S; RoHS: RoHS Compliant; Category: Aluminium Electrolytic Capacitors - Leaded; Stock 1: 2082; Pricing 1: 1=1.12, 10=0.886, 100=0.591, 500=0.502, 1000=0.443, 2000=0.413, 5000=0.398, 10000=0.384, 25000=0.374 (USD); Capacitance: 680 uF; Dimensions: 12.5 mm Dia. x 30 mm L; Packaging: Bulk; Product: Low Impedance Electrolytic Capacitors; Series: KZE; Termination Style: Radial; Brand: United Chemi-Con; Lead Spacing: 5 mm; Maximum Operating Temperature: + 105 C; Product Category: Aluminum Electrolytic Capacitors; Standard Pack Qty: 1000; RoHS - Mouser: Y; Minimum Order Quantity: 1; Reeling: False; ComponentLink1URL: http://www.mouser.com/ds/2/420/al-kze-e-140701-514740.pdf; ComponentLink1Description: http://www.mouser.com/ds/2/420/al-kze-e-140701-514740.pdf; Supplier Part Number 1: 661-EKZE500ELL681MK3
footprint HEADER,2PİN
pins: 1, 2

## EKZE500ELL681MK30S_1
designator C?, comment EKZE500ELL681MK30S
Aluminium Electrolytic Capacitors - Leaded 50volts 680uF 12.5X30; Manufacturer: United Chemi-Con; Tolerance: 20 %; Voltage Rating DC: 50 V; Case Diameter: 12.5 mm; Case Length: 30 mm; Supplier 1: Mouser; Manufacturer Part Number: EKZE500ELL681MK30S; RoHS: RoHS Compliant; Category: Aluminium Electrolytic Capacitors - Leaded; Stock 1: 2082; Pricing 1: 1=1.12, 10=0.886, 100=0.591, 500=0.502, 1000=0.443, 2000=0.413, 5000=0.398, 10000=0.384, 25000=0.374 (USD); Capacitance: 680 uF; Dimensions: 12.5 mm Dia. x 30 mm L; Packaging: Bulk; Product: Low Impedance Electrolytic Capacitors; Series: KZE; Termination Style: Radial; Brand: United Chemi-Con; Lead Spacing: 5 mm; Maximum Operating Temperature: + 105 C; Product Category: Aluminum Electrolytic Capacitors; Standard Pack Qty: 1000; RoHS - Mouser: Y; Minimum Order Quantity: 1; Reeling: False; ComponentLink1URL: http://www.mouser.com/ds/2/420/al-kze-e-140701-514740.pdf; ComponentLink1Description: http://www.mouser.com/ds/2/420/al-kze-e-140701-514740.pdf; Supplier Part Number 1: 661-EKZE500ELL681MK3
footprint HEADER,2PİN
pins: 1, 2

## Filter
designator L?
WURTH ELEKTRONIK - 744232090 - FILTER, COMMON, EMI, 0.37A; Current Rating: 370; Voltage Rating: 50; Filter Terminals: SMD; External Depth: 1.6; External Length / Height: 1.9; External Width: 3.2; Impedance: 90; Resistance: 300; Voltage Rating V DC: 50V<!--FANDB--><div class="features-and-benefits-container"><div class="features-and-benefits-description"><span class="features-benefits-value">The WE-CNSW series from Wurth Elektronik are SMD common mode line filters. These filters provide high common mode suppression at high frequency. WE-CNSW series filters are used in USB 2.0, IEEE 1394 (Firewire), LVDS, high speed data lines, common mode noise sources and LAN applications.</span></div><div class="features-and-benefits-list"><ul class="features-and-benefits-list-list"><li class="features-and-benefits-list-item">EIA 0603, 0805,1206,1812 sizes available</li><li class="features-and-benefits-list-item">Small influence on high speed signals through winding symmetry</li><li class="features-and-benefits-list-item">Operating temperature range from -40°C to +105°C (size 0603)</li><li class="features-and-benefits-list-item">Operating temperature range from -40°C to +125°C (size 0805/1206)</li><li class="features-and-benefits-list-item">Inductance value range from 300nH to 100µH at 100MHz</li><li class="features-and-benefits-list-item">Rated current varies from 0.15A to 2A</li><li class="features-and-benefits-list-item">DC resistance range from 50mohm to 2.65; Supplier 1: Farnell; Manufacturer: WURTH ELEKTRONIK; Manufacturer Part Number: 744232090; RoHS: YES; Stock 1: 5897; Pricing 1: 1=1.2, 10=1.12, 50=1.05, 100=0.966, 500=0.787, 1000=0.614 (GBP); Filter Type: -; Leakage Current Max: -; Capacitance: -; Inductance Min: -; Product Range: -; Operating Temperature Max: +125; Operating Temperature Min: -40; Packaging: Cut Tape; ComponentLink1URL: http://www.farnell.com/datasheets/1735620.pdf; ComponentLink1Description: http://www.farnell.com/datasheets/1735620.pdf; ComponentLink2URL: http://www.farnell.com/cad/1670066.zip; ComponentLink2Description: http://www.farnell.com/cad/1670066.zip; Supplier Part Number 1: 1636474RL
footprint FILTER
pins: 1, 2, 3, 4

## G5NB-1A-4-24VDC
designator RL?
footprint N5GB
pins: 1 VCC-24, 2 NO_1, 3 NO_2, 4 GND_24

## GPS
designator U?
GPS; Supplier 1: Digi-Key; Supplier Part Number 1: RXM-GPS-R4-TCT-ND
footprint GPS
pins: 1 NC, 2 NC, 3 1PPS, 4 TX, 5 RX, 6 NC, 7 1PPS, 8 /RESET, 9 RFPWRUP, 10 ON/OFF, 11 VBACKUP, 12 VCC, 13 NC, 14 NC, 15 NC, 16 NC, 17 VOUT, 18 GND, 19 RFIN, 20 GND, 21 GND, 22 GND

## GPS_1
designator U?
GPS; Supplier 1: Digi-Key; Supplier Part Number 1: RXM-GPS-R4-TCT-ND
footprint GPS
pins: 1 NC, 2 NC, 3 1PPS, 4 TX, 5 RX, 6 NC, 7 1PPS, 8 /RESET, 9 RFPWRUP, 10 ON/OFF, 11 VBACKUP, 12 VCC, 13 NC, 14 NC, 15 NC, 16 NC, 17 VOUT, 18 GND, 19 RFIN, 20 GND, 21 GND, 22 GND

## Header10x2_CJTAG
designator J?
Dual Line Header 10x2pin Tin; TIIntPartnumber: 2H0039; MfrNum: FTR-110-03-G-D-06; PartName: HEADERCTIJTAG10x2Pin; Cost10K: 0.97; Cost100: 1.20; Vendor: Samtec; DescriptiveText: Dual Line Header 10x2pin Tin; Mfr: Samtec; Descriptive_Text: Dual Line Header 10x2pin Tin
footprint JTAG,0.254
pins: 1 TMS, 2 TRSTn, 3 TDI, 4 TDIS, 5 TVDD, 6 NC, 7 TDO, 8 GND (power), 9 TCKRTN, 10 GND (power), 11 TCK, 12 GND (power), 13 EMU0, 14 EMU1, 15 SRST, 16 GND (power), 17 EMU2, 18 EMU3, 19 EMU4, 20 GND (power)

## Header10x2_CJTAG_1
designator J?, comment Header10x2_CJTAG
Dual Line Header 10x2pin Tin; TIIntPartnumber: 2H0039; MfrNum: FTR-110-03-G-D-06; PartName: HEADERCTIJTAG10x2Pin; Cost10K: 0.97; Cost100: 1.20; Vendor: Samtec; DescriptiveText: Dual Line Header 10x2pin Tin; Mfr: Samtec; Descriptive_Text: Dual Line Header 10x2pin Tin
footprint JTAG,0.254
pins: 1 TMS, 2 TRSTn, 3 TDI, 4 TDIS, 5 TVDD, 6 NC, 7 TDO, 8 GND (power), 9 TCKRTN, 10 GND (power), 11 TCK, 12 GND (power), 13 EMU0, 14 EMU1, 15 SRST, 16 GND (power), 17 EMU2, 18 EMU3, 19 EMU4, 20 GND (power)

## Header 2x10 2mm
designator J?, comment Header 2x10
CONN HEADER 2MM SMD AU 20POS; Manufacturer: Harwin Inc.; Manufacturer Part Number: M22-5320505; Connector Type: Header, Unshrouded, Breakaway; Number of Positions: 10; Number of Positions Loaded: All; Pitch: 0.079" (2.00mm); RoHS: RoHS Compliant; Category: Connectors, Interconnects; Packaging: Tube; Contact Type: Male Pin; Number of Rows: 2; Row Spacing: 0.079" (2.00mm); Contact Mating Length: 0.138" (3.50mm); Mounting Type: Surface Mount; Termination: Solder; Fastening Type: -; Features: -; Contact Finish: Gold; Contact Finish Thickness: -; Color: Black; ComponentLink1URL: http://cdn.harwin.com/pdfs/M22-532.pdf; ComponentLink1Description: http://cdn.harwin.com/pdfs/M22-532.pdf; Supplier 1: Digi-Key; Stock 1: 1131; Pricing 1: 1=1.8, 10=1.607, 100=1.323, 500=1.0458, 1000=0.89775, 5000=0.819, 10000=0.7875 (USD); Supplier Part Number 1: 952-1344-ND
footprint Header 2x10 2mm
pins: 1, 2, 3, 4, 5, 6, 7, 8, 9, 10, 11, 12, 13, 14, 15, 16, 17, 18, 19, 20

## Header 2x12 2.54mm
designator J?
Manufacturer: Harwin Inc.; Manufacturer Part Number: M20-9981246; Connector Type: Header, Unshrouded, Breakaway; Number of Positions: 24; Number of Positions Loaded: All; Pitch: 0.100" (2.54mm); Supplier 1: Digi-Key; RoHS: RoHS Compliant; Category: Connectors, Interconnects; Stock 1: 1660; Pricing 1: 1=0.68, 10=0.607, 100=0.4998, 500=0.39508, 1000=0.33915, 5000=0.3094, 10000=0.2975 (USD); Packaging: Bulk; Contact Type: Male Pin; Number of Rows: 2; Row Spacing: 0.100" (2.54mm); Contact Mating Length: 0.240" (6.10mm); Mounting Type: Through Hole; Termination: Solder; Fastening Type: -; Features: -; Contact Finish: Tin; Contact Finish Thickness: -; Color: Black; ComponentLink1URL: https://cdn.harwin.com/pdfs/M20-998.pdf; ComponentLink1Description: https://cdn.harwin.com/pdfs/M20-998.pdf; Supplier Part Number 1: 952-1917-ND
footprint Header 2x12 2.54mm
pins: 1 K, 2 A, 3 D7, 4 D6, 5 D5, 6 D4, 7 E, 8 RW, 9 RS, 10 Vo, 11 VDD, 12 VSS, 13 K1, 14 K2, 15 K3, 16 K4, 17 K5, 18 K6, 19 K7, 20 K8, 21 GSM, 22 PWR, 23 RUN, 24 GND

## Header,2PİN
designator J?
footprint HEADER,2PİN
pins: 1, 2

## Header,2PİN_1
designator J?
footprint HEADER,2PİN
pins: 1, 2

## Header,3Pin
designator J?
footprint HEADER,3PİN
pins: 1, 2, 3

## Header,3Pin_1
designator J?
footprint HEADER,3PİN
pins: 1, 2, 3

## HEADER_1
designator J?
footprint HEADER_1
pins: 1

## HEADER_1_1
designator J?
footprint HEADER_1
pins: 1

## HEADER_4
designator J?
footprint HEADER_4
pins: 1, 2, 3, 4

## HEADER_4_1
designator J?
footprint HEADER_4
pins: 1, 2, 3, 4

## HEADER_12
designator J?
footprint HEADER_12
pins: 1, 2, 3, 4, 5, 6, 7, 8, 9, 10, 11, 12

## HEADER_12_1
designator J?
footprint HEADER_12
pins: 1, 2, 3, 4, 5, 6, 7, 8, 9, 10, 11, 12

## ISE0305
designator U?
DC/DC CONV 5V 1W; Manufacturer: XP Power; Manufacturer Part Number: ISE0305A; Number of Outputs: 1; Voltage - Input (Min): 2.97V; Voltage - Input (Max): 3.63V; Current - Output (Max): 200mA; Voltage - Isolation: 1.5kV (1500V); Efficiency: 74%; Supplier 1: Farnell; Supplier Part Number 1: 2475756; Supplier 2: Digi-Key; RoHS: RoHS Compliant; Category: Power Supplies - Board Mount; Stock 2: 44; Pricing 2: 1=4.25, 5=4.12, 10=4, 25=3.83, 100=3.57, 500=3.32 (USD); Packaging: Tube; Type: Isolated Module; Voltage - Output 1: 5V; Voltage - Output 2: -; Voltage - Output 3: -; Power (Watts) - Manufacture Series: 1W; Applications: ITE (Commercial); Features: SCP; Mounting Type: Surface Mount; Package / Case: 8-SMD Module (5 Leads); Size / Dimension: 0.50" L x 0.44" W x 0.29" H (12.7mm x 11.2mm x 7.3mm); Operating Temperature: -40°C ~ 105°C; Power (Watts) - Max: 1W; ComponentLink1URL: http://www.xppower.com/Portals/0/pdfs/SF_ISE.pdf; ComponentLink1Description: http://www.xppower.com/Portals/0/pdfs/SF_ISE.pdf; Supplier Part Number 2: 1470-2973-5-ND
footprint DC DC
pins: 1 GND, 2 VIN, 4 0V, 5 +Vout, 8 NC

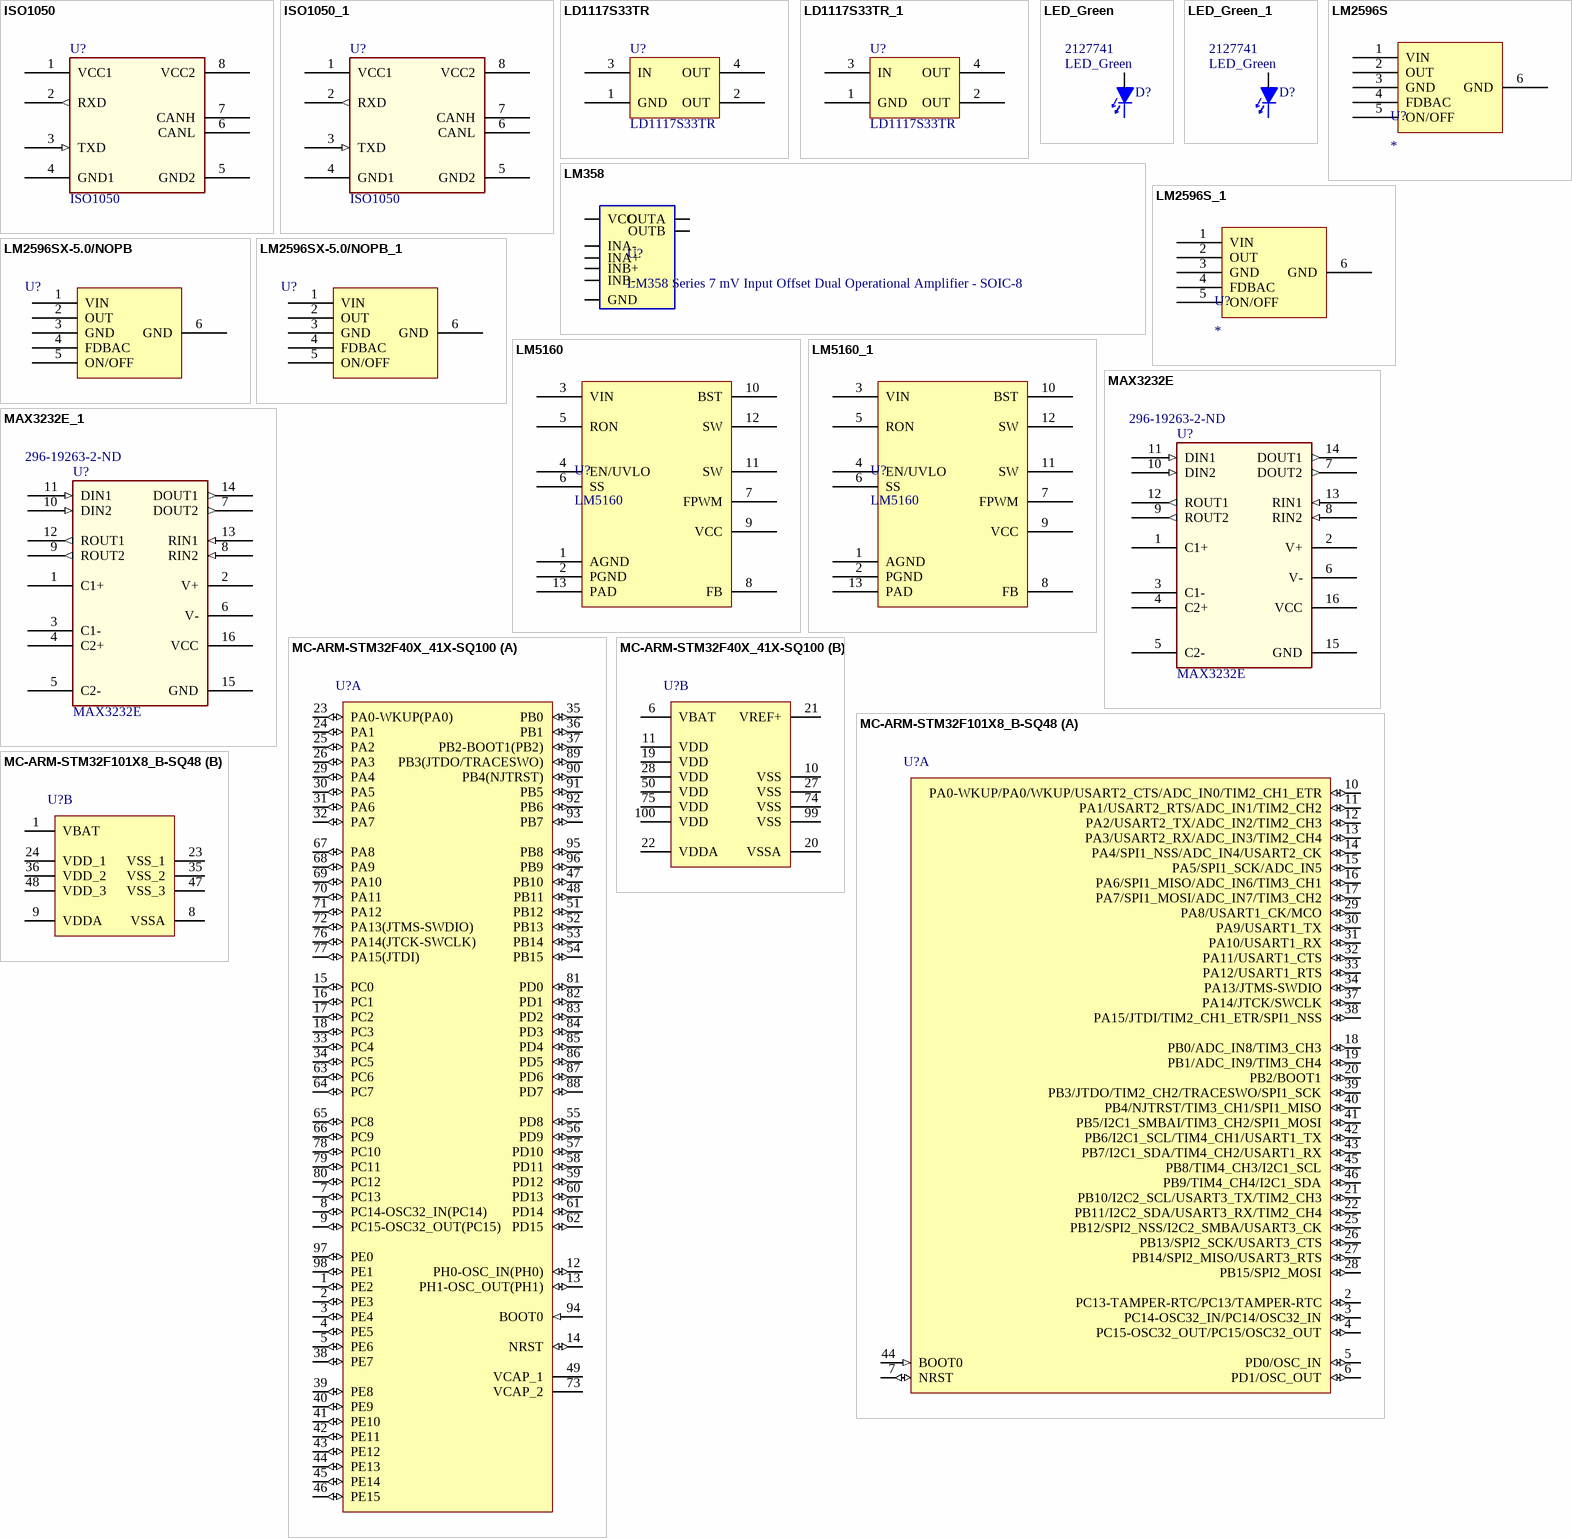
[diagram p12: symbols ISO1050 to MC-ARM-STM32F101X8_B-SQ48]

## ISO1050
designator U?
Isolated CAN Transceiver; TIIntPartnumber: 1A0214; MfrNum: ISO1050DUB; Mfr: TI; Cost10K: 1.91; Cost100: 3.41; Vendor: Digikey; Descriptive_Text: Isolated CAN Transceiver; PartName: ISO1050; DescriptiveText: Isolated CAN Transceiver; Supplier 1: Farnell; Supplier Part Number 1: 1755712RL
footprint so8_w_dub (SO8_W_DUB)
pins: 1 VCC1 (power), 2 RXD (out), 3 TXD (in), 4 GND1 (power), 5 GND2 (power), 6 CANL, 7 CANH, 8 VCC2 (power)

## ISO1050_1
designator U?, comment ISO1050
Isolated CAN Transceiver; TIIntPartnumber: 1A0214; MfrNum: ISO1050DUB; Mfr: TI; Cost10K: 1.91; Cost100: 3.41; Vendor: Digikey; Descriptive_Text: Isolated CAN Transceiver; PartName: ISO1050; DescriptiveText: Isolated CAN Transceiver; Supplier 1: Farnell; Supplier Part Number 1: 1755712RL
footprint so8_w_dub (SO8_W_DUB)
pins: 1 VCC1 (power), 2 RXD (out), 3 TXD (in), 4 GND1 (power), 5 GND2 (power), 6 CANL, 7 CANH, 8 VCC2 (power)

## LD1117S33TR
designator U?
STMICROELECTRONICS - LD1117S33TR - IC, LDO VOLT REG, 3.3V, 0.8A, SOT-223-3; Supplier 1: Farnell; Manufacturer: STMICROELECTRONICS; Manufacturer Part Number: LD1117S33TR; RoHS: YES; Stock 1: 8037; Pricing 1: 1=0,24, 10=0,19, 25=0,164, 100=0,138, 250=0,114, 500=0,099 (EUR); ComponentLink1URL: http://www.st.com/internet/com/TECHNICAL_RESOURCES/TECHNICAL_LITERATURE/PACKING_INFORMATION/CD00148931.pdf; ComponentLink1Description: http://www.st.com/internet/com/TECHNICAL_RESOURCES/TECHNICAL_LITERATURE/PACKING_INFORMATION/CD00148931.pdf; ComponentLink2URL: http://www.farnell.com/datasheets/1776449.pdf; ComponentLink2Description: http://www.farnell.com/datasheets/1776449.pdf; ComponentLink3URL: http://www.farnell.com/cad/1724370.zip; ComponentLink3Description: http://www.farnell.com/cad/1724370.zip; Supplier Part Number 1: 2393623
footprint SOT-223_L (SOT223, 4-Leads, Body 6.5x3.5mm, Pitch 2.3mm, Lead Span 7mm, IPC High Density)
pins: 1 GND, 2 OUT, 3 IN, 4 OUT

## LD1117S33TR_1
designator U?, comment LD1117S33TR
STMICROELECTRONICS - LD1117S33TR - IC, LDO VOLT REG, 3.3V, 0.8A, SOT-223-3; Supplier 1: Farnell; Manufacturer: STMICROELECTRONICS; Manufacturer Part Number: LD1117S33TR; RoHS: YES; Stock 1: 8037; Pricing 1: 1=0,24, 10=0,19, 25=0,164, 100=0,138, 250=0,114, 500=0,099 (EUR); ComponentLink1URL: http://www.st.com/internet/com/TECHNICAL_RESOURCES/TECHNICAL_LITERATURE/PACKING_INFORMATION/CD00148931.pdf; ComponentLink1Description: http://www.st.com/internet/com/TECHNICAL_RESOURCES/TECHNICAL_LITERATURE/PACKING_INFORMATION/CD00148931.pdf; ComponentLink2URL: http://www.farnell.com/datasheets/1776449.pdf; ComponentLink2Description: http://www.farnell.com/datasheets/1776449.pdf; ComponentLink3URL: http://www.farnell.com/cad/1724370.zip; ComponentLink3Description: http://www.farnell.com/cad/1724370.zip; Supplier Part Number 1: 2393623
footprint SOT-223_L (SOT223, 4-Leads, Body 6.5x3.5mm, Pitch 2.3mm, Lead Span 7mm, IPC High Density)
pins: 1 GND, 2 OUT, 3 IN, 4 OUT

## LED_Green
designator D?  Supplier Part Number 1: 2127741
LED Green SMD 20mA 2V 0805; TIIntPartnumber: 1F0008; MfrNum: 598-8170-107F; Mfr: Dialight; PartName: LEDGreen2x1.5; Cost10K: 0.052; Cost100: 0.081; Vendor: Digikey; DescriptiveText: LED Green SMD 20mA 2V 0805; Descriptive_Text: LED Green SMD 20mA 2V 0805; Supplier 1: Farnell
footprint LED_0805
pins: 1 Cathode, 2 Anode

## LED_Green_1
designator D?, comment LED_Green  Supplier Part Number 1: 2127741
LED Green SMD 20mA 2V 0805; TIIntPartnumber: 1F0008; MfrNum: 598-8170-107F; Mfr: Dialight; PartName: LEDGreen2x1.5; Cost10K: 0.052; Cost100: 0.081; Vendor: Digikey; DescriptiveText: LED Green SMD 20mA 2V 0805; Descriptive_Text: LED Green SMD 20mA 2V 0805; Supplier 1: Farnell
footprint LED_0805
pins: 1 Cathode, 2 Anode

## LM358
designator U?, comment LM358 Series 7 mV Input Offset Dual Operational Amplifier - SOIC-8
LM358MXFSCT-ND; Manufacturer: STMicroelectronics; Manufacturer Part Number: LM358DT; Amplifier Type: General Purpose; Number of Circuits: 2; Slew Rate: 0.6 V/µs; Gain Bandwidth Product: 1.1MHz; Current - Input Bias: 20nA; Voltage - Input Offset: 2mV; Current - Supply: 700µA; Current - Output / Channel: 60mA; Voltage - Supply, Single/Dual (±): 3 V ~ 30 V, ±1.5 V ~ 15 V; lead_free_status: Lead Free; mounting_style: Surface Mount; slew_rate: 0.6; supply_current: 0.0005; pin_count: 8; RoHS: RoHS Compliant; Category: Integrated Circuits (ICs); Packaging: Cut Tape (CT); Output Type: -; -3db Bandwidth: -; Operating Temperature: 0°C ~ 70°C; Mounting Type: Surface Mount; Package / Case: 8-SOIC (0.154", 3.90mm Width); Supplier Device Package: 8-SO; ComponentLink1URL: http://www.st.com/web/en/resource/technical/document/datasheet/CD00000464.pdf; ComponentLink1Description: http://www.st.com/web/en/resource/technical/document/datasheet/CD00000464.pdf; Supplier 1: Octopart; Stock 1: 28677; Pricing 1: 1=0.39000, 10=0.31700, 100=0.21580, 500=0.16154, 1000=0.12099 (USD); rohs_status: Compliant; reach_svhc_compliance: No SVHC; case_package: SOP; number_of_circuits: 2; lifecycle_status: Active; number_of_channels: 2; Octopart Url: http://octopart.com/lm358mx-fairchild+semiconductor-414618; Manufacturer Part Detail Url: https://octopart-clicks.com/click/track?country=TR&ak=8157f166&ct=hyperlinks&sig=09e5379&sid=1595&ppid=414618&hlid=17769068; Seller Landing  Url: https://octopart-clicks.com/click/track?country=TR&ak=8157f166&sig=08734bf&sid=459&ppid=414618&vpid=34030540&ct=offers; OctopartID: c87b0177be8717bc; ComponentLink2URL: http://datasheet.octopart.com/LM358MX-Fairchild-Semiconductor-datasheet-10506076.pdf; ComponentLink2Description: http://datasheet.octopart.com/LM358MX-Fairchild-Semiconductor-datasheet-10506076.pdf; ComponentLink3URL: http://datasheet.octopart.com/LM358MX-Fairchild-datasheet-2089.pdf; ComponentLink3Description: http://datasheet.octopart.com/LM358MX-Fairchild-datasheet-2089.pdf; ComponentLink4URL: http://sigma.octopart.com/33068652/technical_drawing/Fairchild-Semiconductor-LM358MX.pdf; ComponentLink4Description: http://sigma.octopart.com/33068652/technical_drawing/Fairchild-Semiconductor-LM358MX.pdf; ComponentLink5URL: http://sigma.octopart.com/17345426/technical_drawing/Fairchild-Semiconductor-LM358MX.pdf; ComponentLink5Description: http://sigma.octopart.com/17345426/technical_drawing/Fairchild-Semiconductor-LM358MX.pdf; ComponentLink6URL: http://datasheet.octopart.com/LM358MX-Fairchild-Semiconductor-datasheet-10506378.pdf; ComponentLink6Description: http://datasheet.octopart.com/LM358MX-Fairchild-Semiconductor-datasheet-10506378.pdf; ComponentLink7URL: http://datasheet.octopart.com/LM358MX-Fairchild-Semiconductor-datasheet-14043864.pdf; ComponentLink7Description: http://datasheet.octopart.com/LM358MX-Fairchild-Semiconductor-datasheet-14043864.pdf; ComponentLink8URL: http://datasheet.octopart.com/LM358MX-Fairchild-Semiconductor-datasheet-13519245.pdf; ComponentLink8Description: http://datasheet.octopart.com/LM358MX-Fairchild-Semiconductor-datasheet-13519245.pdf; Supplier Part Number 1: Digi-Key - LM358MXFSCT-ND
footprint SOIC-8
pins: 1 OUTA, 2 INA-, 3 INA+, 4 GND, 5 INB+, 6 INB-, 7 OUTB, 8 VCC

## LM2596S
designator U?
Manufacturer: Texas Instruments; Manufacturer Part Number: LM2596SX-3.3/NOPB; Input Voltage MAX: 40 V; Number of Outputs: 1 Output; Output Current: 3 A; Output Voltage: 3.3 V; Switching Frequency: 173 kHz; Topology: Buck; Input Voltage MIN: 4.5 V; Supplier 1: Mouser; RoHS: RoHS Compliant; Category: Voltage Regulators - Switching Regulators; Stock 1: 724; Pricing 1: 1=4.45, 10=3.98, 25=3.57, 50=3.42, 100=3.26, 250=2.94, 500=2.64, 1000=2.39, 1500=2.03 (USD); Operating Temperature Range: - 40 C to + 125 C; Package/Case: TO-263-5; Packaging: Reel; Series: LM2596; Type: Inverting, Step Down; Brand: Texas Instruments; Mounting Style: SMD/SMT; Maximum Operating Temperature: + 125 C; Minimum Operating Temperature: - 40 C; Standard Pack Qty: 500; Supply Voltage - Min: 4.5 V; Tradename: SIMPLE SWITCHER; RoHS - Mouser: Y; Minimum Order Quantity: 1; Reeling: True; ComponentLink1URL: http://www.mouser.com/ds/2/405/snvs124c-317006.pdf; ComponentLink1Description: http://www.mouser.com/ds/2/405/snvs124c-317006.pdf; Supplier Part Number 1: 926-LM2596SX33NOPB
footprint TO-263-5 (D2-PAK, 6-Leads, Body 8.6x10.2mm, Pitch 1.7mm, Lead Span 14.1mm, IPC High Density)
pins: 1 VIN, 2 OUT, 3 GND, 4 FDBAC, 5 ON/OFF, 6 GND

## LM2596S_1
designator U?
Manufacturer: Texas Instruments; Manufacturer Part Number: LM2596SX-3.3/NOPB; Input Voltage MAX: 40 V; Number of Outputs: 1 Output; Output Current: 3 A; Output Voltage: 3.3 V; Switching Frequency: 173 kHz; Topology: Buck; Input Voltage MIN: 4.5 V; Supplier 1: Mouser; RoHS: RoHS Compliant; Category: Voltage Regulators - Switching Regulators; Stock 1: 724; Pricing 1: 1=4.45, 10=3.98, 25=3.57, 50=3.42, 100=3.26, 250=2.94, 500=2.64, 1000=2.39, 1500=2.03 (USD); Operating Temperature Range: - 40 C to + 125 C; Package/Case: TO-263-5; Packaging: Reel; Series: LM2596; Type: Inverting, Step Down; Brand: Texas Instruments; Mounting Style: SMD/SMT; Maximum Operating Temperature: + 125 C; Minimum Operating Temperature: - 40 C; Standard Pack Qty: 500; Supply Voltage - Min: 4.5 V; Tradename: SIMPLE SWITCHER; RoHS - Mouser: Y; Minimum Order Quantity: 1; Reeling: True; ComponentLink1URL: http://www.mouser.com/ds/2/405/snvs124c-317006.pdf; ComponentLink1Description: http://www.mouser.com/ds/2/405/snvs124c-317006.pdf; Supplier Part Number 1: 926-LM2596SX33NOPB
footprint TO-263-5 (D2-PAK, 6-Leads, Body 8.6x10.2mm, Pitch 1.7mm, Lead Span 14.1mm, IPC High Density)
pins: 1 VIN, 2 OUT, 3 GND, 4 FDBAC, 5 ON/OFF, 6 GND

## LM2596SX-5.0/NOPB
designator U?
Voltage Regulators - Switching Regulators 150 KHZ 3A STEP-DOWN VLTG REG; Manufacturer: Texas Instruments; Manufacturer Part Number: LM2596SX-5.0/NOPB; Input Voltage MAX: 40 V; Number of Outputs: 1 Output; Output Voltage: 5 V; Switching Frequency: 173 kHz; Topology: Buck; Input Voltage MIN: 4.5 V; Supplier 1: Mouser; RoHS: RoHS Compliant; Category: Voltage Regulators - Switching Regulators; Stock 1: 1902; Pricing 1: 1=4.45, 10=3.98, 25=3.57, 50=3.42, 100=3.26, 250=2.94, 500=2.64, 1000=2.39, 1500=2.03 (USD); Operating Temperature Range: - 40 C to + 85 C; Output Current: 3 A; Package/Case: TO-263-5; Packaging: Reel; Series: LM2596; Type: Inverting, Step Down; Brand: Texas Instruments; Mounting Style: SMD/SMT; Maximum Operating Temperature: + 125 C; Minimum Operating Temperature: - 40 C; Standard Pack Qty: 500; RoHS - Mouser: Y; Minimum Order Quantity: 1; Reeling: True; ComponentLink1URL: http://www.mouser.com/ds/2/405/snvs124c-317006.pdf; ComponentLink1Description: http://www.mouser.com/ds/2/405/snvs124c-317006.pdf; Supplier Part Number 1: 926-LM2596SX-5.0NOPB
footprint TO-263-5 (D2-PAK, 6-Leads, Body 8.6x10.2mm, Pitch 1.7mm, Lead Span 14.1mm, IPC High Density)
pins: 1 VIN, 2 OUT, 3 GND, 4 FDBAC, 5 ON/OFF, 6 GND

## LM2596SX-5.0/NOPB_1
designator U?
Voltage Regulators - Switching Regulators 150 KHZ 3A STEP-DOWN VLTG REG; Manufacturer: Texas Instruments; Manufacturer Part Number: LM2596SX-5.0/NOPB; Input Voltage MAX: 40 V; Number of Outputs: 1 Output; Output Voltage: 5 V; Switching Frequency: 173 kHz; Topology: Buck; Input Voltage MIN: 4.5 V; Supplier 1: Mouser; RoHS: RoHS Compliant; Category: Voltage Regulators - Switching Regulators; Stock 1: 1902; Pricing 1: 1=4.45, 10=3.98, 25=3.57, 50=3.42, 100=3.26, 250=2.94, 500=2.64, 1000=2.39, 1500=2.03 (USD); Operating Temperature Range: - 40 C to + 85 C; Output Current: 3 A; Package/Case: TO-263-5; Packaging: Reel; Series: LM2596; Type: Inverting, Step Down; Brand: Texas Instruments; Mounting Style: SMD/SMT; Maximum Operating Temperature: + 125 C; Minimum Operating Temperature: - 40 C; Standard Pack Qty: 500; RoHS - Mouser: Y; Minimum Order Quantity: 1; Reeling: True; ComponentLink1URL: http://www.mouser.com/ds/2/405/snvs124c-317006.pdf; ComponentLink1Description: http://www.mouser.com/ds/2/405/snvs124c-317006.pdf; Supplier Part Number 1: 926-LM2596SX-5.0NOPB
footprint TO-263-5 (D2-PAK, 6-Leads, Body 8.6x10.2mm, Pitch 1.7mm, Lead Span 14.1mm, IPC High Density)
pins: 1 VIN, 2 OUT, 3 GND, 4 FDBAC, 5 ON/OFF, 6 GND